# Altium footprint library Resistor - Surface Mount - 0805.PcbLib: 1 footprints
Each footprint in its own frame and in the unit in brackets; x right, y up, seen from the top. Pads: shape width x height; smd on the part's side, far side on the other; paste and mask are expansions set on the pad; w line width, h text height; cw(c..) or ccw(c..) is an arc to the next point about the centre after c.
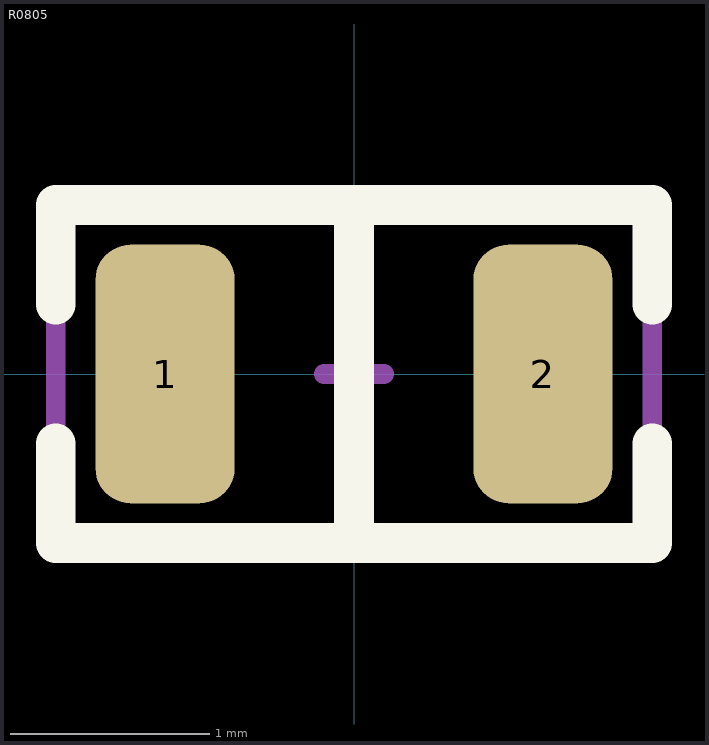
[diagram p0: the footprint, top view; thin cyan lines are the x and y axes]

## R0805 [mm]
pads (2):
  rrect50% 0.7x1.3 smd: 1(-0.95,0) 2(0.95,0)
Top Overlay:
  lines w0.2: -1.5,-0.35 -1.5,-0.85 0,-0.85 ; -1.5,0.35 -1.5,0.85 0,0.85 ; 1.5,-0.35 1.5,-0.85 0,-0.85 ; 1.5,0.35 1.5,0.85 0,0.85 ; 0,-0.85 0,0.85
Mechanical 2:
  lines w0.1: -0.15,0 0.15,0 ; 0,-0.15 0,0.15 ; -1.5,-0.85 -1.5,0.85 0,0.85 1.5,0.85 1.5,-0.85 -1.5,-0.85
3D body "R0805.STEP": height 0.58, standoff -0.02, extent -1,-0.625 1,0.625